# Altium footprint library TB6612FNG.PcbLib: 1 footprints
Each footprint in its own frame and in the unit in brackets; x right, y up, seen from the top. Pads: shape width x height; smd on the part's side, far side on the other; paste and mask are expansions set on the pad; w line width, h text height; cw(c..) or ccw(c..) is an arc to the next point about the centre after c.
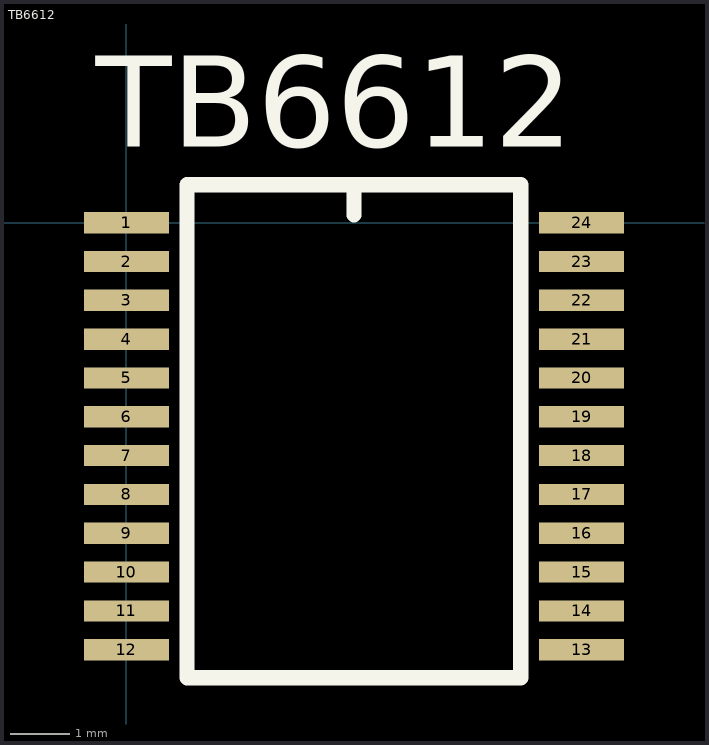
[diagram p0: the footprint, top view; thin cyan lines are the x and y axes]

## TB6612 [mil]
pads (25):
  rect 56x14 smd: 1(0,0) 1(0,0) 2(0,-25.59) 3(0,-51.18) 4(0,-76.77) 5(0,-102.36) 6(0,-127.95) 7(0,-153.54) 8(0,-179.13) 9(0,-204.72) 10(0,-230.31) 11(0,-255.91) 12(0,-281.5) 13(300.2,-281.5) 14(300.2,-255.91) 15(300.2,-230.31) 16(300.2,-204.72) 17(300.2,-179.13) 18(300.2,-153.54) 19(300.2,-127.95) 20(300.2,-102.36) 21(300.2,-76.77) 22(300.2,-51.18) 23(300.2,-25.59) 24(300.2,0)
Top Overlay:
  lines w10: 150,5 150,25 ; 250,-300 260,-300 ; 260,-300 40,-300 40,25 260,25 260,-300
  text "TB6612" at -20,50 h60
3D body: height 57.01, standoff -1.89, extent 2.39,-302.99 299.61,21.12